# EAGLE library part IMU-9X50 (library Andrew-Boards)
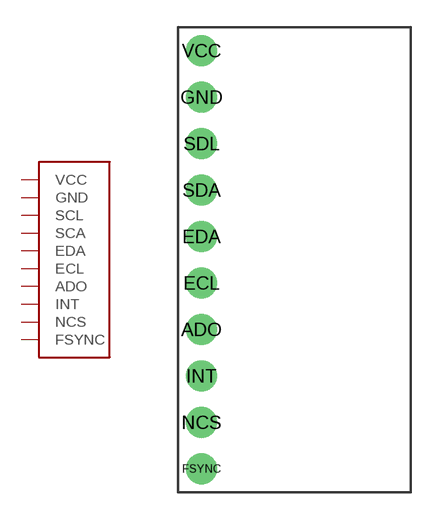
[diagram p0: symbol with the pads of IMU-9X50; footprint IMU-9X50]

Designator prefix -

## IMU-9X50MPU-9150  [IMU-9X50]
ADO  ADO
ECL  ECL
EDA  EDA
FSYNC  FSYNC
GND  GND
INT  INT
NCS  NCS
SDA  SCA
SDL  SCL
VCC  VCC

## Footprint IMU-9X50 (pad centres in mm)
drill 0.8 pad 1.676: ADO -5.08,-3.81; ECL -5.08,-1.27; EDA -5.08,1.27; FSYNC -5.08,-11.43; GND -5.08,8.89; INT -5.08,-6.35; NCS -5.08,-8.89; SDA -5.08,3.81; SDL -5.08,6.35; VCC -5.08,11.43